# Altium schematic symbol library 1N4148W_R1_00001.SchLib: 1 symbol
Pins are listed as number, name and electrical type; pins without a type are passive.

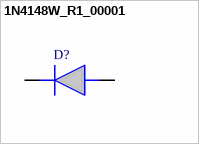
[diagram p0: symbol 1N4148W_R1_00001]

## 1N4148W_R1_00001
designator D?
Diodes - General Purpose, Power, Switching /A2/TR/7"/HF/3K/SOD-123/SWI/SOD/USM-04/USM04-QI01/PJ///; Manufacturer_Name: PANJIT; Geometry.Height: 1.35mm; Mouser Part Number: 241-1N4148W_R1_00001; Mouser Price/Stock: https://www.mouser.co.uk/ProductDetail/Panjit/1N4148W_R1_00001?qs=sPbYRqrBIVnqVztCqPNVrw%3D%3D; Manufacturer_Part_Number: 1N4148W_R1_00001; Datasheet Link: *
footprint SOD3816X135N
pins: 1 K, 2 A